# EAGLE library part A111 (library A111_Pulsed_Radar)
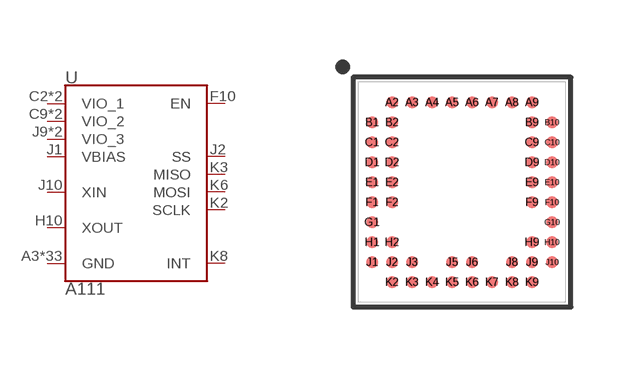
[diagram p0: symbol with the pads of A111; footprint A111]

Designator prefix U

## A111  [A111]
A3  GND
A4  GND
A5  GND
A6  GND
A7  GND
A8  GND
A9  GND
B2  GND
B9  GND
B10  GND
C1  GND
C2  VIO_1
C9  VIO_2
C10  GND
D1  VIO_1
D2  GND
D9  GND
D10  VIO_2
E1  GND
E2  GND
E9  GND
E10  GND
F1  GND
F2  GND
F9  GND
F10  EN
G1  GND
G10  GND
H1  GND
H2  GND
H9  GND
H10  XOUT
J1  VBIAS
J2  SS
J3  GND
J5  GND
J6  GND
J8  GND
J9  VIO_3
J10  XIN
K2  SCLK
K3  MISO
K4  GND
K5  GND
K6  MOSI
K7  GND
K8  INT
K9  VIO_3

## Footprint A111 (pad centres in mm)
smd 0.3 x 0.3: A2 -1.75,2.25; A3 -1.25,2.25; A4 -0.75,2.25; A5 -0.25,2.25; A6 0.25,2.25; A7 0.75,2.25; A8 1.25,2.25; A9 1.75,2.25; B1 -2.25,1.75; B2 -1.75,1.75; B9 1.75,1.75; B10 2.25,1.75; C1 -2.25,1.25; C2 -1.75,1.25; C9 1.75,1.25; C10 2.25,1.25; D1 -2.25,0.75; D2 -1.75,0.75; D9 1.75,0.75; D10 2.25,0.75; E1 -2.25,0.25; E2 -1.75,0.25; E9 1.75,0.25; E10 2.25,0.25; F1 -2.25,-0.25; F2 -1.75,-0.25; F9 1.75,-0.25; F10 2.25,-0.25; G1 -2.25,-0.75; G10 2.25,-0.75; H1 -2.25,-1.25; H2 -1.75,-1.25; H9 1.75,-1.25; H10 2.25,-1.25; J1 -2.25,-1.75; J2 -1.75,-1.75; J3 -1.25,-1.75; J5 -0.25,-1.75; J6 0.25,-1.75; J8 1.25,-1.75; J9 1.75,-1.75; J10 2.25,-1.75; K2 -1.75,-2.25; K3 -1.25,-2.25; K4 -0.75,-2.25; K5 -0.25,-2.25; K6 0.25,-2.25; K7 0.75,-2.25; K8 1.25,-2.25; K9 1.75,-2.25